# EAGLE library part XCR3256XL-7TQG144C (library SamacSys_Parts)
CPLD - Complex Programmable Logic Devices XCR3256XL-7TQG144C Source: Datasheet <https://www.xilinx.com/support/documentation/data_sheets/ds013.pdf>
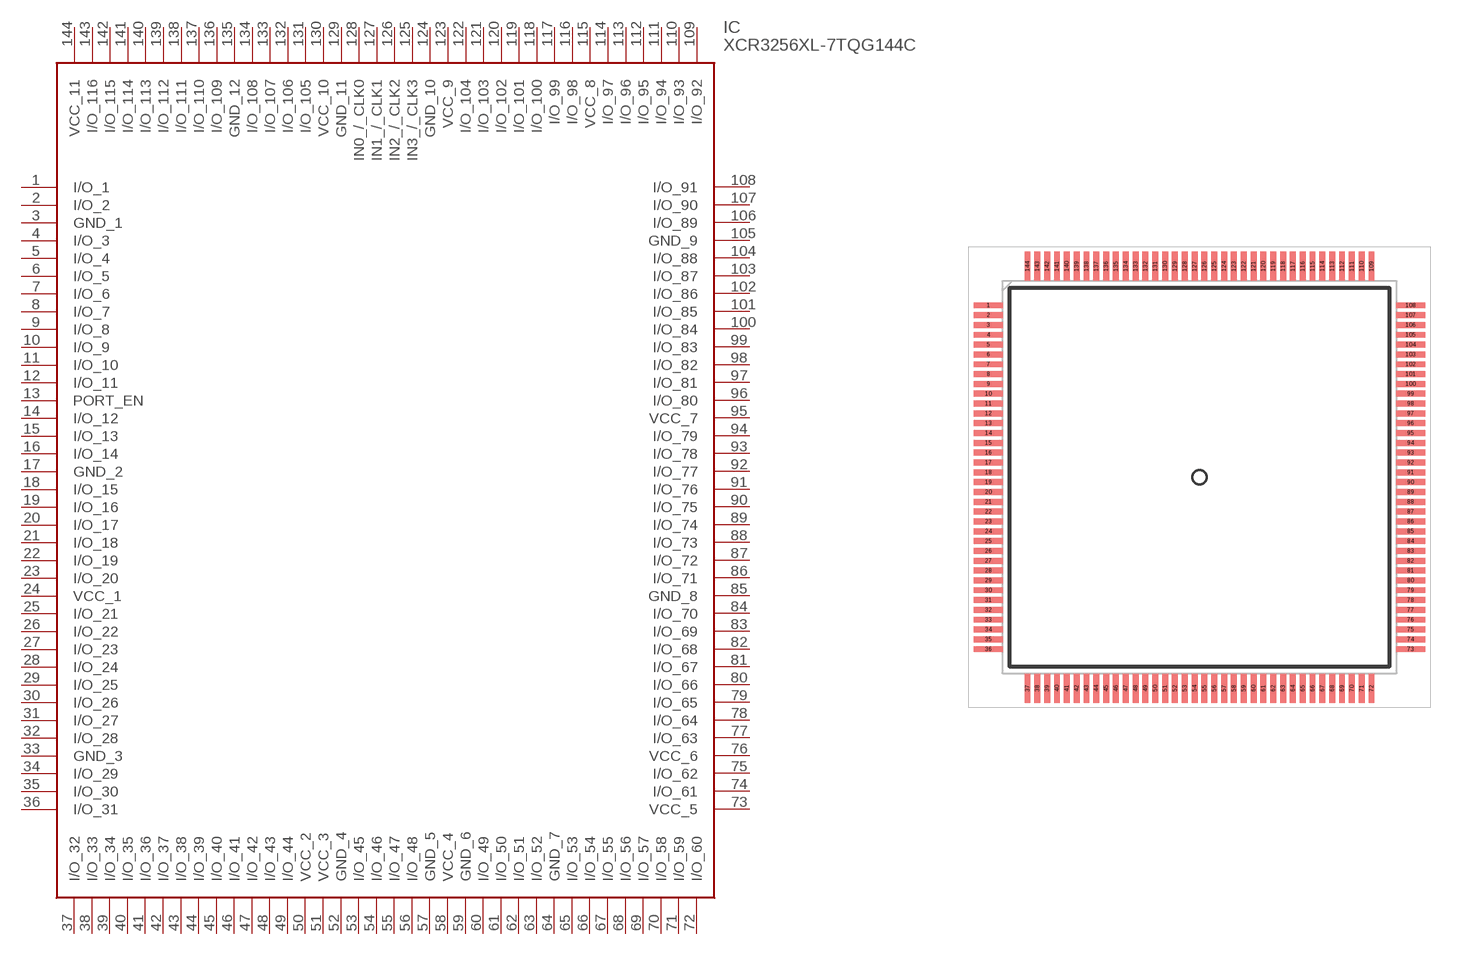
[diagram p170: symbol with the pads of QFP50P2200X2200X160-144N; footprint QFP50P2200X2200X160-144N]

Designator prefix IC

## XCR3256XL-7TQG144C (DESCRIPTION: CPLD - Complex Programmable Logic Devices XCR3256XL-7TQG144C; HEIGHT: 1.6mm; MANUFACTURER_NAME: XILINX; MANUFACTURER_PART_NUMBER: XCR3256XL-7TQG144C; MOUSER_PART_NUMBER: 217-R3256XL-7TQG144C; MOUSER_PRICE-STOCK: https://www.mouser.co.uk/ProductDetail/Xilinx/XCR3256XL-7TQG144C?qs=rrS6PyfT74e6Z9vcmxb6QA%3D%3D)  [QFP50P2200X2200X160-144N]
1  I/O_1
2  I/O_2
3  GND_1
4  I/O_3
5  I/O_4
6  I/O_5
7  I/O_6
8  I/O_7
9  I/O_8
10  I/O_9
11  I/O_10
12  I/O_11
13  PORT_EN
14  I/O_12
15  I/O_13
16  I/O_14
17  GND_2
18  I/O_15
19  I/O_16
20  I/O_17
21  I/O_18
22  I/O_19
23  I/O_20
24  VCC_1
25  I/O_21
26  I/O_22
27  I/O_23
28  I/O_24
29  I/O_25
30  I/O_26
31  I/O_27
32  I/O_28
33  GND_3
34  I/O_29
35  I/O_30
36  I/O_31
37  I/O_32
38  I/O_33
39  I/O_34
40  I/O_35
41  I/O_36
42  I/O_37
43  I/O_38
44  I/O_39
45  I/O_40
46  I/O_41
47  I/O_42
48  I/O_43
49  I/O_44
50  VCC_2
51  VCC_3
52  GND_4
53  I/O_45
54  I/O_46
55  I/O_47
56  I/O_48
57  GND_5
58  VCC_4
59  GND_6
60  I/O_49
61  I/O_50
62  I/O_51
63  I/O_52
64  GND_7
65  I/O_53
66  I/O_54
67  I/O_55
68  I/O_56
69  I/O_57
70  I/O_58
71  I/O_59
72  I/O_60
73  VCC_5
74  I/O_61
75  I/O_62
76  VCC_6
77  I/O_63
78  I/O_64
79  I/O_65
80  I/O_66
81  I/O_67
82  I/O_68
83  I/O_69
84  I/O_70
85  GND_8
86  I/O_71
87  I/O_72
88  I/O_73
89  I/O_74
90  I/O_75
91  I/O_76
92  I/O_77
93  I/O_78
94  I/O_79
95  VCC_7
96  I/O_80
97  I/O_81
98  I/O_82
99  I/O_83
100  I/O_84
101  I/O_85
102  I/O_86
103  I/O_87
104  I/O_88
105  GND_9
106  I/O_89
107  I/O_90
108  I/O_91
109  I/O_92
110  I/O_93
111  I/O_94
112  I/O_95
113  I/O_96
114  I/O_97
115  VCC_8
116  I/O_98
117  I/O_99
118  I/O_100
119  I/O_101
120  I/O_102
121  I/O_103
122  I/O_104
123  VCC_9
124  GND_10
125  IN3_/_CLK3
126  IN2_/_CLK2
127  IN1_/_CLK1
128  IN0_/_CLK0
129  GND_11
130  VCC_10
131  I/O_105
132  I/O_106
133  I/O_107
134  I/O_108
135  GND_12
136  I/O_109
137  I/O_110
138  I/O_111
139  I/O_112
140  I/O_113
141  I/O_114
142  I/O_115
143  I/O_116
144  VCC_11

## Footprint QFP50P2200X2200X160-144N (pad centres in mm)
144-Pin TQFP Packag
smd 1.475 x 0.3: 1 -10.738,8.75; 2 -10.738,8.25; 3 -10.738,7.75; 4 -10.738,7.25; 5 -10.738,6.75; 6 -10.738,6.25; 7 -10.738,5.75; 8 -10.738,5.25; 9 -10.738,4.75; 10 -10.738,4.25; 11 -10.738,3.75; 12 -10.738,3.25; 13 -10.738,2.75; 14 -10.738,2.25; 15 -10.738,1.75; 16 -10.738,1.25; 17 -10.738,0.75; 18 -10.738,0.25; 19 -10.738,-0.25; 20 -10.738,-0.75; 21 -10.738,-1.25; 22 -10.738,-1.75; 23 -10.738,-2.25; 24 -10.738,-2.75; 25 -10.738,-3.25; 26 -10.738,-3.75; 27 -10.738,-4.25; 28 -10.738,-4.75; 29 -10.738,-5.25; 30 -10.738,-5.75; 31 -10.738,-6.25; 32 -10.738,-6.75; 33 -10.738,-7.25; 34 -10.738,-7.75; 35 -10.738,-8.25; 36 -10.738,-8.75; 73 10.738,-8.75; 74 10.738,-8.25; 75 10.738,-7.75; 76 10.738,-7.25; 77 10.738,-6.75; 78 10.738,-6.25; 79 10.738,-5.75; 80 10.738,-5.25; 81 10.738,-4.75; 82 10.738,-4.25; 83 10.738,-3.75; 84 10.738,-3.25; 85 10.738,-2.75; 86 10.738,-2.25; 87 10.738,-1.75; 88 10.738,-1.25; 89 10.738,-0.75; 90 10.738,-0.25; 91 10.738,0.25; 92 10.738,0.75; 93 10.738,1.25; 94 10.738,1.75; 95 10.738,2.25; 96 10.738,2.75; 97 10.738,3.25; 98 10.738,3.75; 99 10.738,4.25; 100 10.738,4.75; 101 10.738,5.25; 102 10.738,5.75; 103 10.738,6.25; 104 10.738,6.75; 105 10.738,7.25; 106 10.738,7.75; 107 10.738,8.25; 108 10.738,8.75
smd 0.3 x 1.475: 37 -8.75,-10.738; 38 -8.25,-10.738; 39 -7.75,-10.738; 40 -7.25,-10.738; 41 -6.75,-10.738; 42 -6.25,-10.738; 43 -5.75,-10.738; 44 -5.25,-10.738; 45 -4.75,-10.738; 46 -4.25,-10.738; 47 -3.75,-10.738; 48 -3.25,-10.738; 49 -2.75,-10.738; 50 -2.25,-10.738; 51 -1.75,-10.738; 52 -1.25,-10.738; 53 -0.75,-10.738; 54 -0.25,-10.738; 55 0.25,-10.738; 56 0.75,-10.738; 57 1.25,-10.738; 58 1.75,-10.738; 59 2.25,-10.738; 60 2.75,-10.738; 61 3.25,-10.738; 62 3.75,-10.738; 63 4.25,-10.738; 64 4.75,-10.738; 65 5.25,-10.738; 66 5.75,-10.738; 67 6.25,-10.738; 68 6.75,-10.738; 69 7.25,-10.738; 70 7.75,-10.738; 71 8.25,-10.738; 72 8.75,-10.738; 109 8.75,10.738; 110 8.25,10.738; 111 7.75,10.738; 112 7.25,10.738; 113 6.75,10.738; 114 6.25,10.738; 115 5.75,10.738; 116 5.25,10.738; 117 4.75,10.738; 118 4.25,10.738; 119 3.75,10.738; 120 3.25,10.738; 121 2.75,10.738; 122 2.25,10.738; 123 1.75,10.738; 124 1.25,10.738; 125 0.75,10.738; 126 0.25,10.738; 127 -0.25,10.738; 128 -0.75,10.738; 129 -1.25,10.738; 130 -1.75,10.738; 131 -2.25,10.738; 132 -2.75,10.738; 133 -3.25,10.738; 134 -3.75,10.738; 135 -4.25,10.738; 136 -4.75,10.738; 137 -5.25,10.738; 138 -5.75,10.738; 139 -6.25,10.738; 140 -6.75,10.738; 141 -7.25,10.738; 142 -7.75,10.738; 143 -8.25,10.738; 144 -8.75,10.738